# Altium footprint library Diodes_imp.PcbLib: 57 footprints (part 4 of 4)
Each footprint in its own frame and in the unit in brackets; x right, y up, seen from the top. Pads: shape width x height; smd on the part's side, far side on the other; paste and mask are expansions set on the pad; w line width, h text height; cw(c..) or ccw(c..) is an arc to the next point about the centre after c.
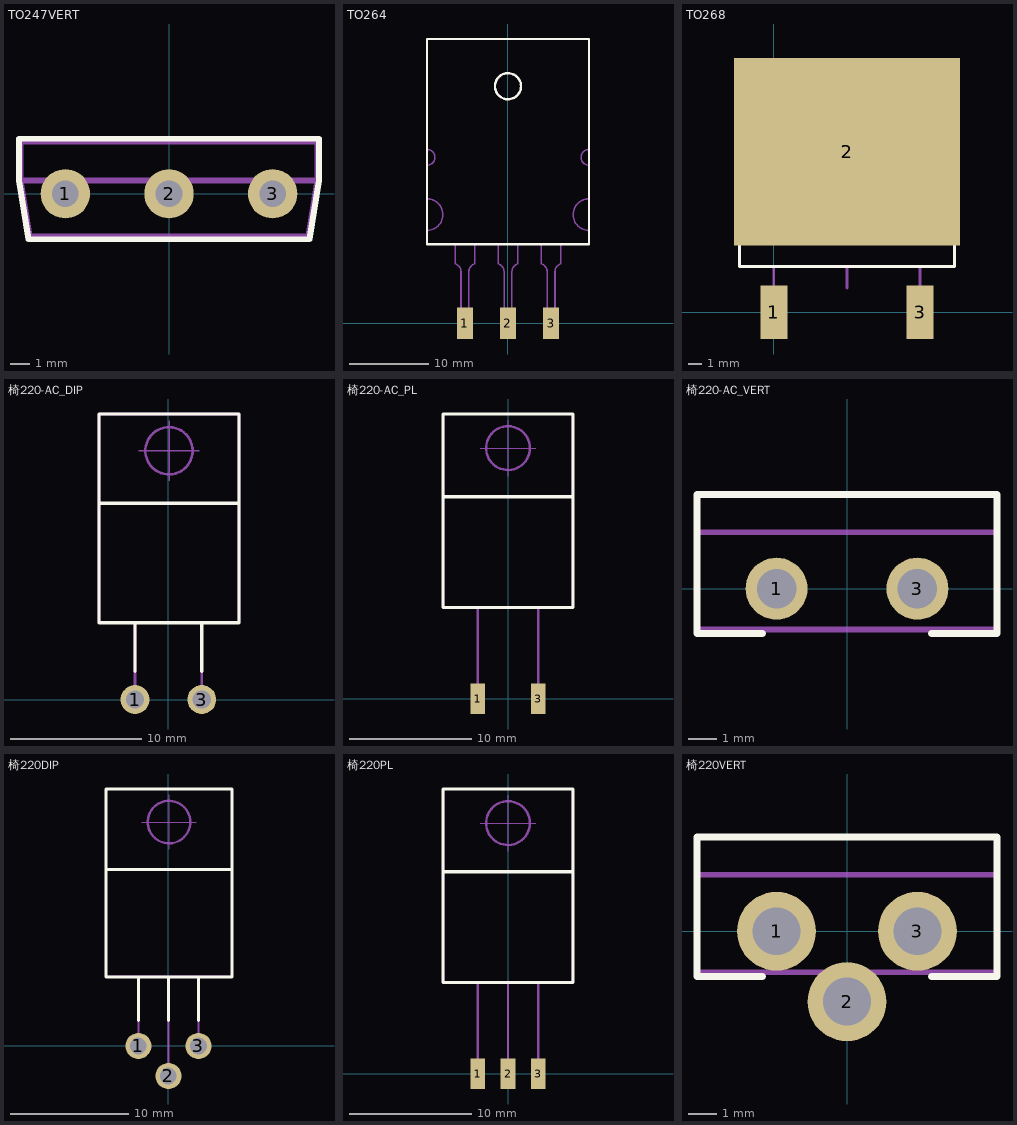
[diagram p3: the footprints below, top view; thin cyan lines are the x and y axes]

## TO247VERT [mm]
height 30
pads (3):
  round 2.6 hole 1.4: 1(-5.46,0) 2(0,0) 3(5.46,0)
Top Overlay:
  lines w0.3: -7.9,0.7 -7.4,-2.4 7.4,-2.4 7.9,0.7 7.9,2.9 -7.9,2.9 -7.9,0.7
Mechanical 1:
  lines w0.3: -7.347,-2.25 7.3,-2.25 ; -7.347,-2.242 -7.8,0.7 ; 7.347,-2.242 7.8,0.7 ; -7.8,0.7 -7.8,2.75 7.8,2.75 7.8,0.7 ; -7.8,0.7 7.8,0.7
  text ".Designator" at -1.1,3.6 h1.5
  text ".Comment" at -2.7,-3.9 h1.5
  text "1" at -5.85,-1.55 h1.5
  text "2" at -0.1,-1.55 h1.5
  text "3" at 5.15,-1.55 h1.5
3D body "TO247VERT.STEP": height 30.5, standoff -3, extent -7.8,-2.25 7.8,2.75

## TO264 [mm]
height 5.1
pads (3):
  rect 2x4 smd: 1(-5.45,0) 2(0,0) 3(5.45,0)
Top Overlay:
  circle w0.3: c0,30 r1.65
  lines w0.3: -10.25,10 -10.25,11.746 -10.25,15.746 -10.25,20 -10.25,22 -10.25,35.958 ; -10.229,35.979 10.229,35.979 ; -10.166,10 10.166,10 ; 10.25,10 10.25,11.746 10.25,15.746 10.25,20 10.25,22 10.25,35.958
Mechanical 1:
  circle w0.2: c0,30 r1.65
  lines w0.2: -6.7,10 -6.7,7.5 cw(c-6.95,6.532) -5.95,6.532 -5.95,-1 -4.95,-1 -4.95,6.532 cw(c-3.95,6.532) -4.2,7.5 -4.2,10 ; -1.25,10 -1.25,7.5 cw(c-1.5,6.532) -0.5,6.532 -0.5,-1 0.5,-1 0.5,6.532 cw(c1.5,6.532) 1.25,7.5 1.25,10 ; 4.2,10 4.2,7.5 cw(c3.95,6.532) 4.95,6.532 4.95,-1 5.95,-1 5.95,6.532 cw(c6.95,6.532) 6.7,7.5 6.7,10 ; 10.229,35.979 -10.229,35.979 -10.25,35.958 -10.25,22 ; 10.25,35.958 10.25,22 ; -10.25,11.746 ccw(c-10.25,13.746) -9.956,11.767 ccw(c-10.25,13.746) -9.956,15.724 ccw(c-10.25,13.746) -10.25,15.746 ; -10.25,11.746 -10.25,15.746 ; -10.25,11.746 -10.25,10 -10.166,10 10.166,10 10.25,10 10.25,11.746 ; -10.25,15.746 -10.25,20 ; -10.25,20 ccw(c-10.25,21) -9.956,20.044 ccw(c-10.25,21) -9.956,21.956 ccw(c-10.25,21) -10.25,22 ; -10.25,20 -10.25,22 ; 10.25,11.746 cw(c10.25,13.746) 9.956,11.767 cw(c10.25,13.746) 9.956,15.724 cw(c10.25,13.746) 10.25,15.746 ; 10.25,11.746 10.25,15.746 ; 10.25,15.746 10.25,20 ; 10.25,20 cw(c10.25,21) 9.956,20.044 cw(c10.25,21) 9.956,21.956 cw(c10.25,21) 10.25,22 ; 10.25,20 10.25,22
  text ".Designator" at -0.398,17.278 h1.5
  text ".Comment" at -1.988,15.578 h1.5
  text "1" at -6,11 h1.5
  text "2" at 0,11 h1.5
  text "3" at 5,11 h1.5
3D body "TO264.STEP": height 5.2, standoff 0, extent -10.25,-1 10.25,35.979

## TO268 [mm]
height 5.1
pads (3):
  rect 2x4 smd: 1(0,0) 3(10.9,0)
  rect 16.8x14 smd: 2(5.45,11.95)
Top Overlay:
  lines w0.25: -2.557,5.15 -2.557,3.4 13.457,3.4 13.457,5.15
Mechanical 1:
  lines w0.2: 0,-0.635 0,3.4 ; 5.45,1.8 5.45,3.4 ; 10.89,-0.635 10.89,3.4 ; -2.55,16.55 -2.55,3.4 13.45,3.4 13.45,16.55 ; -2.55,16.55 -1.85,17.2 12.75,17.2 13.45,16.55 ; -2.55,16.55 -2.176,18.17 cw(c-1.846,18.17) -1.846,18.5 12.746,18.5 cw(c12.746,18.17) 13.076,18.17 13.45,16.55
  text ".Designator" at 2.643,7.843 h1.5
  text "1" at -0.25,4.15 h1.5
  text "2" at 5.2,11.05 h1.5
  text "3" at 10.7,4.05 h1.5
3D body "TO268.stp": height 5.1, standoff 0, extent -2.55,-0.7 13.45,18.55

## 椅220-AC_DIP [mm]
height 4.8
pads (2):
  round 2.2 hole 1.4: 1(-2.54,0) 3(2.54,0)
Top Overlay:
  lines w0.25: -5.28,14.942 5.37,14.942 ; -2.54,2.159 -2.54,5.842 ; 2.54,2.159 2.54,5.842 ; -5.28,5.842 5.37,5.842 5.37,21.742 -5.28,21.742 -5.28,5.842
Mechanical 1:
  circle w0.2: c0.045,18.942 r1.8
  lines w0.1: -2.255,18.942 2.345,18.942 ; 0.045,16.642 0.045,21.242
  lines w0.2: -5.28,14.942 5.37,14.942 ; -2.54,0 -2.54,5.842 ; 2.54,0 2.54,5.842 ; -5.28,5.842 5.37,5.842 5.37,21.742 -5.28,21.742 -5.28,5.842
  text ".Designator" at -1.635,11.672 h1.5
  text "1" at -3.59,6.59 h1.5
  text "3" at 2.892,6.59 h1.5
3D body "椅220-AC_DIP.STEP": height 4.8, standoff -3, extent -5.325,-0.44 5.325,21.742

## 椅220-AC_PL [mm]
height 4.8
pads (2):
  rect 1.2x2.5 smd: 1(-2.5,0) 3(2.5,0)
Top Overlay:
  lines w0.25: -5.325,16.6 5.325,16.6 ; -5.325,7.5 -5.325,23.4 5.325,23.4 5.325,7.5 -5.325,7.5
Mechanical 1:
  circle w0.2: c0,20.6 r1.8
  lines w0.1: -2.3,20.6 2.3,20.6 ; 0,18.3 0,22.9
  lines w0.2: -5.325,16.6 5.325,16.6 ; -2.5,-0.5 -2.5,7.5 ; 2.5,-0.5 2.5,7.5 ; -5.325,7.5 -5.325,23.4 5.325,23.4 5.325,7.5 -5.325,7.5
  text "3" at 2.847,8.248 h1.5
  text "1" at -3.635,8.248 h1.5
  text ".Designator" at -1.68,13.33 h1.5
3D body "椅220-AC_PL.STEP": height 4.8, standoff 0, extent -5.325,-0.52 5.325,23.38

## 椅220-AC_VERT [mm]
height 21
pads (2):
  round 2.2 hole 1.4: 1(-2.5,0) 3(2.5,0)
Top Overlay:
  lines w0.25: -3,-1.6 -5.325,-1.6 -5.325,3.35 5.325,3.35 5.325,-1.6 3,-1.6
Mechanical 1:
  lines w0.2: -5.325,2 5.325,2 ; -5.325,-1.45 5.325,-1.45 5.325,3.35 -5.325,3.35 -5.325,-1.45
  text ".Designator" at -1.38,4.05 h1.5
  text "1" at -4.27,-0.017 h1.5
  text "3" at 3.482,-0.017 h1.5
3D body "椅220-AC_VERT.STEP": height 21.6, standoff -3, extent -5.325,-1.5 5.325,3.3

## 椅220DIP [mm]
height 4.8
pads (3):
  round 2.2 hole 1.4: 1(-2.54,0) 2(0,-2.54) 3(2.54,0)
Top Overlay:
  lines w0.25: -5.28,14.942 5.37,14.942 ; -2.54,2.159 -2.54,5.842 ; 0,2.159 0,5.842 ; 2.54,2.159 2.54,5.842 ; -5.28,5.842 -5.28,21.742 5.37,21.742 5.37,5.842 -5.28,5.842
Mechanical 1:
  circle w0.2: c0.045,18.942 r1.8
  lines w0.1: -2.255,18.942 2.345,18.942 ; 0.045,16.642 0.045,21.242
  lines w0.2: -5.28,14.942 5.37,14.942 ; -2.54,0 -2.54,5.842 ; 0,-2.54 0,5.842 ; 2.54,0 2.54,5.842 ; -5.28,5.842 -5.28,21.742 5.37,21.742 5.37,5.842 -5.28,5.842
  text "2" at -0.415,6.59 h1.5
  text "3" at 2.892,6.59 h1.5
  text "1" at -3.59,6.59 h1.5
  text ".Designator" at -1.635,11.672 h1.5
3D body "椅220DIP.STEP": height 4.8, standoff -3, extent -5.325,-2.98 5.325,21.742

## 椅220PL [mm]
height 4.8
pads (3):
  rect 1.2x2.5 smd: 1(-2.5,0) 2(0,0) 3(2.5,0)
Top Overlay:
  lines w0.25: -5.325,16.6 5.325,16.6 ; -5.325,7.5 -5.325,23.4 5.325,23.4 5.325,7.5 -5.325,7.5
Mechanical 1:
  circle w0.2: c0,20.6 r1.8
  lines w0.1: -2.3,20.6 2.3,20.6 ; 0,18.3 0,22.9
  lines w0.2: -5.325,16.6 5.325,16.6 ; -2.5,-0.5 -2.5,7.5 ; 0,-0.5 0,7.5 ; 2.5,-0.5 2.5,7.5 ; -5.325,7.5 -5.325,23.4 5.325,23.4 5.325,7.5 -5.325,7.5
  text "2" at -0.46,8.248 h1.5
  text "3" at 2.847,8.248 h1.5
  text "1" at -3.635,8.248 h1.5
  text ".Designator" at -1.68,13.33 h1.5
3D body "椅220PL.STEP": height 4.8, standoff 0, extent -5.325,-0.52 5.325,23.38

## 椅220VERT [mm]
height 21
pads (3):
  round 2.8 hole 1.7: 1(-2.5,0) 2(0,-2.5) 3(2.5,0)
Top Overlay:
  lines w0.25: -3,-1.6 -5.325,-1.6 -5.325,3.35 5.325,3.35 5.325,-1.6 3,-1.6
Mechanical 1:
  lines w0.2: -5.325,2 5.325,2 ; 0,-2.5 0,-1.45 ; -5.325,-1.45 -5.325,3.35 5.325,3.35 5.325,-1.45 -5.325,-1.45
  text "2" at -0.46,-0.682 h1.5
  text "3" at 3.482,-0.017 h1.5
  text "1" at -4.27,-0.017 h1.5
  text ".Designator" at -1.38,4.05 h1.5
3D body "室-28_Vertical.STEP": height 21.6, standoff -3, extent -5.325,-3.05 5.325,3.35